# Altium integrated library TI Data Converters Analog to Digital Converter.IntLib: 2197 symbols (part 95 of 168)
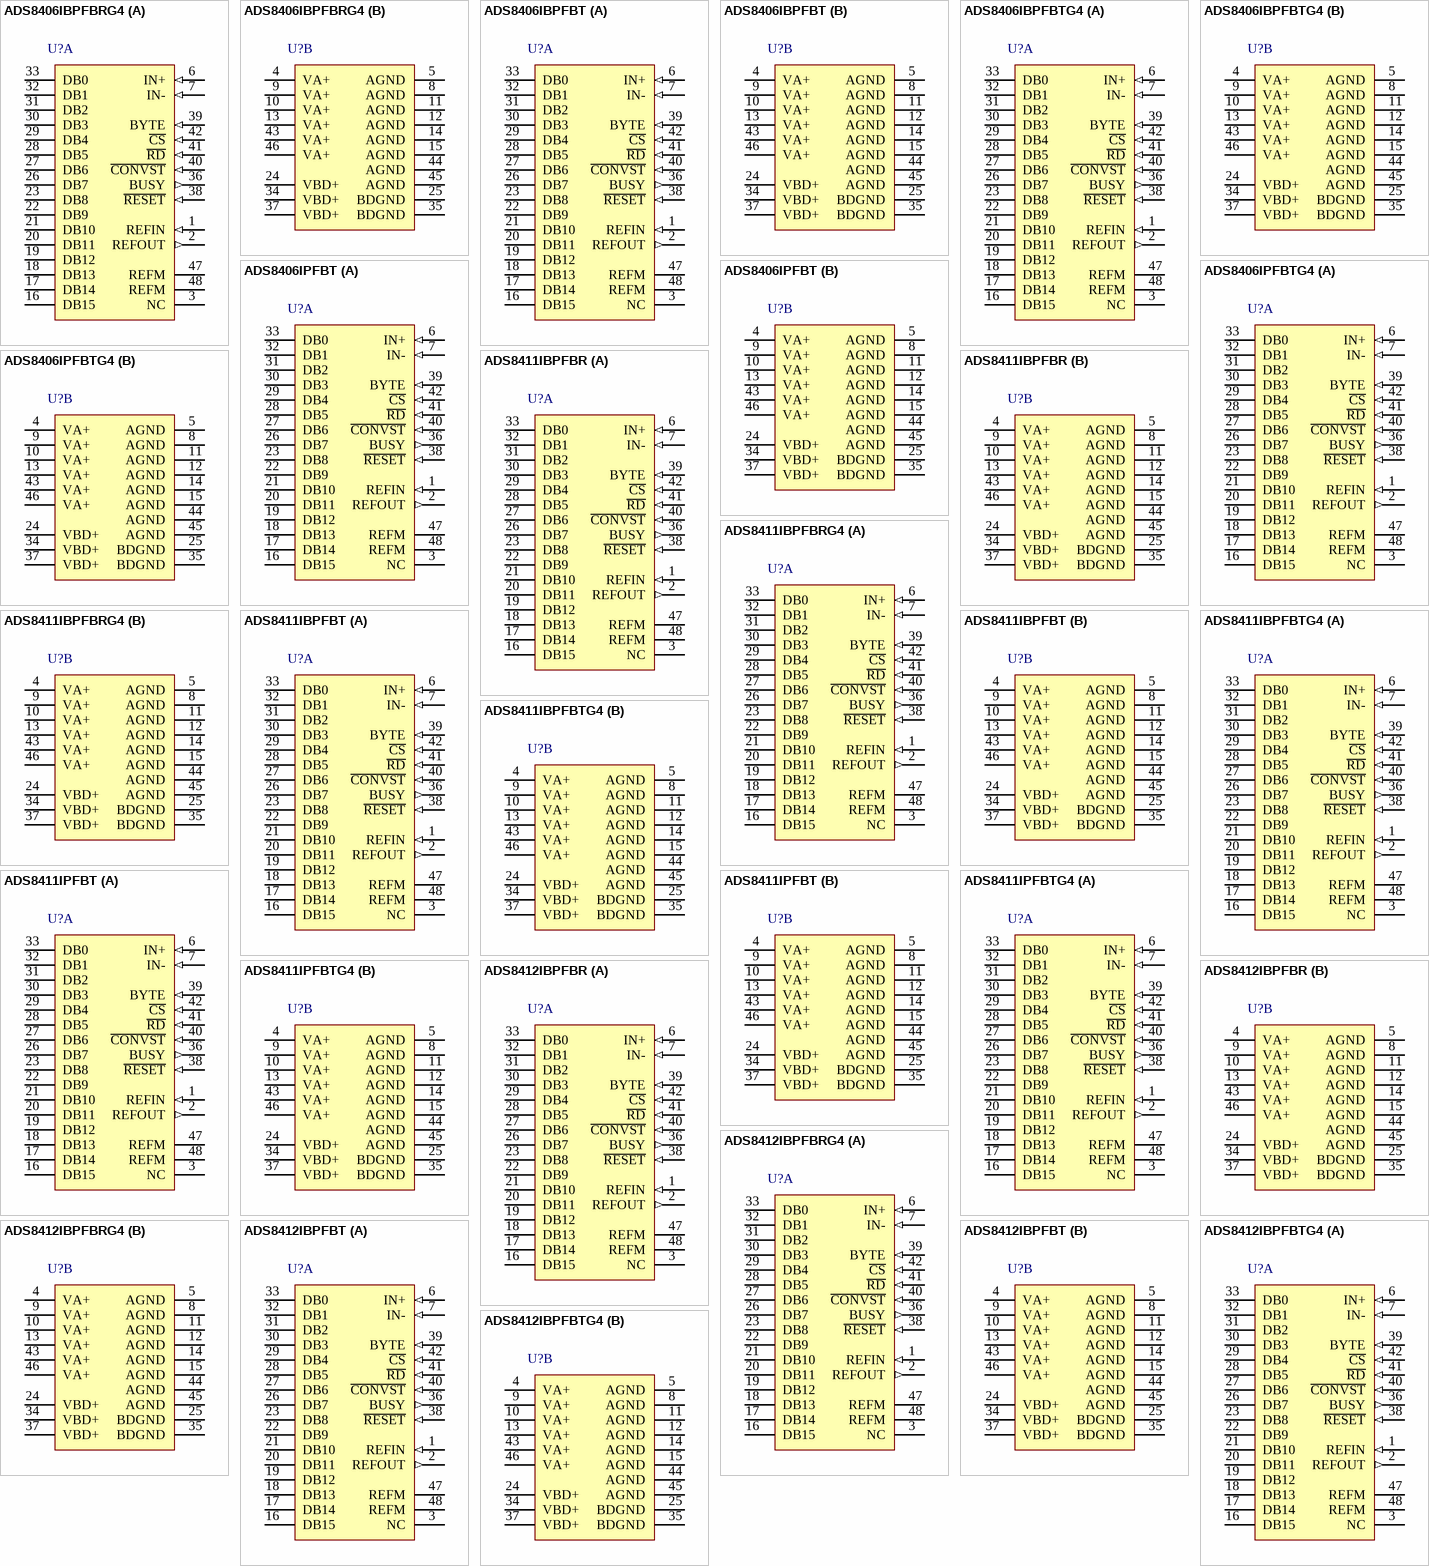
[diagram p220: symbols ADS8406IBPFBRG4 to ADS8412IBPFBTG4]

## ADS8411IBPFBT
designator U?
16-Bit, 2 MSPS ADC with Parallel Output, Internal Clock and Internal Reference, -40 to 85 degC, 48-pin QFP (PFB48), Green (RoHS & no Sb/Br); Manufacturer: Texas Instruments; PartNumber: ADS8411IBPFBT; # Input Channels: 1; Analog Voltage AV/DD(Max)(V): 5.25; Analog Voltage AV/DD(Min)(V): 4.75; Architecture: SAR; Digital Supply(Min)(V): 2.7; INL(Max)(+/-LSB): 2.5; Interface: Parallel CMOS; Resolution(Bits): 16; Sample Rate (max)(SPS): 2M; SFDR(dB): 90; SINAD(dB): 85; SNR(dB): 86; SubFamily: Precision ADC (<=10MSPS); DatasheetVersion: SLAS369B; PackageVersion: 4073176/B, 10/1996; PackageReference: PFB48; PackageDescription: 48-Pin Plastic Flat Pack, Body 7 x 7 mm, Pitch 0.5 mm; Supplier 1: Digi-Key; Supplier Part Number 1: ADS7816EB/2K5G4-ND; Supplier 2: Mouser; Supplier Part Number 2: 595-ADS7816EB/2K5G4; Digital Supply(Max)(V): 5.25; Eco-Plan: Green (RoHS & no Sb/Br); Mounting Technology: Surface Mount; Code_JEDEC: MS-026; ComponentLink1Description: Manufacturer URL; ComponentLink1URL: http://www.ti.com/; ComponentLink2Description: Datasheet; ComponentLink2URL: http://www.ti.com/general/docs/lit/getliterature.tsp?genericPartNumber=ADS8411&fileType=pdf; ComponentLink3Description: Package Specification; ComponentLink3URL: http://www.ti.com/lit/ml/mtqf019a/mtqf019a.pdf
footprint TI-PFB48_N (QFP, 48-Leads, Body 7x7mm, Pitch 0.5mm, IPC Medium Density)
footprint TI-PFB48_L (QFP, 48-Leads, Body 7x7mm, Pitch 0.5mm, IPC High Density)
footprint TI-PFB48_M (QFP, 48-Leads, Body 7x7mm, Pitch 0.5mm, IPC Low Density)
part A pins: 1 REFIN (in) "Reference input.", 2 REFOUT (out) "Reference output. Add 1 uF capacitor between the REFOUT pin and REFM pin when internal reference is used.", 3 NC "No connection", 6 IN+ (in) "Noninverting input channel", 7 IN- (in) "Inverting input channel", 16 DB15 (hiz), 17 DB14 (hiz), 18 DB13 (hiz), 19 DB12 (hiz), 20 DB11 (hiz), 21 DB10 (hiz), 22 DB9 (hiz), 23 DB8 (hiz), 26 DB7 (hiz), 27 DB6 (hiz), 28 DB5 (hiz), 29 DB4 (hiz), 30 DB3 (hiz), 31 DB2 (hiz), 32 DB1 (hiz), 33 DB0 (hiz), 36 BUSY (out) "Status output. High when a conversion is in progress.", 38 ~{RESET} (in) "Current conversion is aborted and output latches are cleared (set to zeros) when this pin is asserted low. R\E\S\E\T\ works independantly of C\S\.", 39 BYTE (in) "Byte select input. Used for 8-bit bus reading. 0: No fold back 1: Low byte D[7:0] of the 16 most significant bits is folded back to high byte of the 16 most significant pins DB[15:8].", 40 ~{CONVST} (in) "Convert start. The falling edge of this input ends the acquisition period and starts the hold period.", 41 ~{RD} (in) "Synchronization pulse for the parallel output. When C\S\ is low, this serves as the output enable and puts the previous conversion result on the bus.", 42 ~{CS} (in) "Chip select. The falling edge of this input starts the acquisition period.", 47 REFM (power) "Reference ground.", 48 REFM (power) "Reference ground."
part B pins: 4 VA+ (power) "Analog power supplies, 5-V dc", 5 AGND (power) "Analog ground", 8 AGND (power) "Analog ground", 9 VA+ (power) "Analog power supplies, 5-V dc", 10 VA+ (power) "Analog power supplies, 5-V dc", 11 AGND (power) "Analog ground", 12 AGND (power) "Analog ground", 13 VA+ (power) "Analog power supplies, 5-V dc", 14 AGND (power) "Analog ground", 15 AGND (power) "Analog ground", 24 VBD+ (power) "Digital power supply for bus", 25 BDGND (power) "Digital ground for bus interface digital supply", 34 VBD+ (power) "Digital power supply for bus", 35 BDGND (power) "Digital ground for bus interface digital supply", 37 VBD+ (power) "Digital power supply for bus", 43 VA+ (power) "Analog power supplies, 5-V dc", 44 AGND (power) "Analog ground", 45 AGND (power) "Analog ground", 46 VA+ (power) "Analog power supplies, 5-V dc"

## ADS8411IBPFBTG4
designator U?
16-Bit, 2 MSPS ADC with Parallel Output, Internal Clock and Internal Reference, -40 to 85 degC, 48-pin QFP (PFB48), Green (RoHS & no Sb/Br); Manufacturer: Texas Instruments; PartNumber: ADS8411IBPFBTG4; # Input Channels: 1; Analog Voltage AV/DD(Max)(V): 5.25; Analog Voltage AV/DD(Min)(V): 4.75; Architecture: SAR; Digital Supply(Min)(V): 2.7; INL(Max)(+/-LSB): 2.5; Interface: Parallel CMOS; Resolution(Bits): 16; Sample Rate (max)(SPS): 2M; SFDR(dB): 90; SINAD(dB): 85; SNR(dB): 86; SubFamily: Precision ADC (<=10MSPS); DatasheetVersion: SLAS369B; PackageVersion: 4073176/B, 10/1996; PackageReference: PFB48; PackageDescription: 48-Pin Plastic Flat Pack, Body 7 x 7 mm, Pitch 0.5 mm; Supplier 1: Digi-Key; Supplier Part Number 1: ADS7816ECTR-ND; Supplier 2: Digi-Key; Supplier Part Number 2: ADS7816ECCT-ND; Supplier 3: Digi-Key; Supplier Part Number 3: ADS7816ECDKR-ND; Supplier 4: Farnell; Supplier Part Number 4: 1754724; Supplier 5: Newark; Supplier Part Number 5: 93R5060; Supplier 6: Mouser; Supplier Part Number 6: 595-ADS7816EC/250; Digital Supply(Max)(V): 5.25; Eco-Plan: Green (RoHS & no Sb/Br); Mounting Technology: Surface Mount; Code_JEDEC: MS-026; ComponentLink1Description: Manufacturer URL; ComponentLink1URL: http://www.ti.com/; ComponentLink2Description: Datasheet; ComponentLink2URL: http://www.ti.com/general/docs/lit/getliterature.tsp?genericPartNumber=ADS8411&fileType=pdf; ComponentLink3Description: Package Specification; ComponentLink3URL: http://www.ti.com/lit/ml/mtqf019a/mtqf019a.pdf
footprint TI-PFB48_N (QFP, 48-Leads, Body 7x7mm, Pitch 0.5mm, IPC Medium Density)
footprint TI-PFB48_L (QFP, 48-Leads, Body 7x7mm, Pitch 0.5mm, IPC High Density)
footprint TI-PFB48_M (QFP, 48-Leads, Body 7x7mm, Pitch 0.5mm, IPC Low Density)
part A pins: 1 REFIN (in) "Reference input.", 2 REFOUT (out) "Reference output. Add 1 uF capacitor between the REFOUT pin and REFM pin when internal reference is used.", 3 NC "No connection", 6 IN+ (in) "Noninverting input channel", 7 IN- (in) "Inverting input channel", 16 DB15 (hiz), 17 DB14 (hiz), 18 DB13 (hiz), 19 DB12 (hiz), 20 DB11 (hiz), 21 DB10 (hiz), 22 DB9 (hiz), 23 DB8 (hiz), 26 DB7 (hiz), 27 DB6 (hiz), 28 DB5 (hiz), 29 DB4 (hiz), 30 DB3 (hiz), 31 DB2 (hiz), 32 DB1 (hiz), 33 DB0 (hiz), 36 BUSY (out) "Status output. High when a conversion is in progress.", 38 ~{RESET} (in) "Current conversion is aborted and output latches are cleared (set to zeros) when this pin is asserted low. R\E\S\E\T\ works independantly of C\S\.", 39 BYTE (in) "Byte select input. Used for 8-bit bus reading. 0: No fold back 1: Low byte D[7:0] of the 16 most significant bits is folded back to high byte of the 16 most significant pins DB[15:8].", 40 ~{CONVST} (in) "Convert start. The falling edge of this input ends the acquisition period and starts the hold period.", 41 ~{RD} (in) "Synchronization pulse for the parallel output. When C\S\ is low, this serves as the output enable and puts the previous conversion result on the bus.", 42 ~{CS} (in) "Chip select. The falling edge of this input starts the acquisition period.", 47 REFM (power) "Reference ground.", 48 REFM (power) "Reference ground."
part B pins: 4 VA+ (power) "Analog power supplies, 5-V dc", 5 AGND (power) "Analog ground", 8 AGND (power) "Analog ground", 9 VA+ (power) "Analog power supplies, 5-V dc", 10 VA+ (power) "Analog power supplies, 5-V dc", 11 AGND (power) "Analog ground", 12 AGND (power) "Analog ground", 13 VA+ (power) "Analog power supplies, 5-V dc", 14 AGND (power) "Analog ground", 15 AGND (power) "Analog ground", 24 VBD+ (power) "Digital power supply for bus", 25 BDGND (power) "Digital ground for bus interface digital supply", 34 VBD+ (power) "Digital power supply for bus", 35 BDGND (power) "Digital ground for bus interface digital supply", 37 VBD+ (power) "Digital power supply for bus", 43 VA+ (power) "Analog power supplies, 5-V dc", 44 AGND (power) "Analog ground", 45 AGND (power) "Analog ground", 46 VA+ (power) "Analog power supplies, 5-V dc"

## ADS8411IPFBT
designator U?
16-Bit, 2 MSPS ADC with Parallel Output, Internal Clock and Internal Reference, -40 to 85 degC, 48-pin QFP (PFB48), Green (RoHS & no Sb/Br); Manufacturer: Texas Instruments; PartNumber: ADS8411IPFBT; # Input Channels: 1; Analog Voltage AV/DD(Max)(V): 5.25; Analog Voltage AV/DD(Min)(V): 4.75; Architecture: SAR; Digital Supply(Min)(V): 2.7; INL(Max)(+/-LSB): 6; Interface: Parallel CMOS; Resolution(Bits): 16; Sample Rate (max)(SPS): 2M; SFDR(dB): 90; SINAD(dB): 85; SNR(dB): 86; SubFamily: Precision ADC (<=10MSPS); DatasheetVersion: SLAS369B; PackageVersion: 4073176/B, 10/1996; PackageReference: PFB48; PackageDescription: 48-Pin Plastic Flat Pack, Body 7 x 7 mm, Pitch 0.5 mm; Supplier 1: Digi-Key; Supplier Part Number 1: ADS7816EC/250G4-ND; Supplier 2: Mouser; Supplier Part Number 2: 595-ADS7816EC/250G4; Digital Supply(Max)(V): 5.25; Eco-Plan: Green (RoHS & no Sb/Br); Mounting Technology: Surface Mount; Code_JEDEC: MS-026; ComponentLink1Description: Manufacturer URL; ComponentLink1URL: http://www.ti.com/; ComponentLink2Description: Datasheet; ComponentLink2URL: http://www.ti.com/general/docs/lit/getliterature.tsp?genericPartNumber=ADS8411&fileType=pdf; ComponentLink3Description: Package Specification; ComponentLink3URL: http://www.ti.com/lit/ml/mtqf019a/mtqf019a.pdf
footprint TI-PFB48_N (QFP, 48-Leads, Body 7x7mm, Pitch 0.5mm, IPC Medium Density)
footprint TI-PFB48_L (QFP, 48-Leads, Body 7x7mm, Pitch 0.5mm, IPC High Density)
footprint TI-PFB48_M (QFP, 48-Leads, Body 7x7mm, Pitch 0.5mm, IPC Low Density)
part A pins: 1 REFIN (in) "Reference input.", 2 REFOUT (out) "Reference output. Add 1 uF capacitor between the REFOUT pin and REFM pin when internal reference is used.", 3 NC "No connection", 6 IN+ (in) "Noninverting input channel", 7 IN- (in) "Inverting input channel", 16 DB15 (hiz), 17 DB14 (hiz), 18 DB13 (hiz), 19 DB12 (hiz), 20 DB11 (hiz), 21 DB10 (hiz), 22 DB9 (hiz), 23 DB8 (hiz), 26 DB7 (hiz), 27 DB6 (hiz), 28 DB5 (hiz), 29 DB4 (hiz), 30 DB3 (hiz), 31 DB2 (hiz), 32 DB1 (hiz), 33 DB0 (hiz), 36 BUSY (out) "Status output. High when a conversion is in progress.", 38 ~{RESET} (in) "Current conversion is aborted and output latches are cleared (set to zeros) when this pin is asserted low. R\E\S\E\T\ works independantly of C\S\.", 39 BYTE (in) "Byte select input. Used for 8-bit bus reading. 0: No fold back 1: Low byte D[7:0] of the 16 most significant bits is folded back to high byte of the 16 most significant pins DB[15:8].", 40 ~{CONVST} (in) "Convert start. The falling edge of this input ends the acquisition period and starts the hold period.", 41 ~{RD} (in) "Synchronization pulse for the parallel output. When C\S\ is low, this serves as the output enable and puts the previous conversion result on the bus.", 42 ~{CS} (in) "Chip select. The falling edge of this input starts the acquisition period.", 47 REFM (power) "Reference ground.", 48 REFM (power) "Reference ground."
part B pins: 4 VA+ (power) "Analog power supplies, 5-V dc", 5 AGND (power) "Analog ground", 8 AGND (power) "Analog ground", 9 VA+ (power) "Analog power supplies, 5-V dc", 10 VA+ (power) "Analog power supplies, 5-V dc", 11 AGND (power) "Analog ground", 12 AGND (power) "Analog ground", 13 VA+ (power) "Analog power supplies, 5-V dc", 14 AGND (power) "Analog ground", 15 AGND (power) "Analog ground", 24 VBD+ (power) "Digital power supply for bus", 25 BDGND (power) "Digital ground for bus interface digital supply", 34 VBD+ (power) "Digital power supply for bus", 35 BDGND (power) "Digital ground for bus interface digital supply", 37 VBD+ (power) "Digital power supply for bus", 43 VA+ (power) "Analog power supplies, 5-V dc", 44 AGND (power) "Analog ground", 45 AGND (power) "Analog ground", 46 VA+ (power) "Analog power supplies, 5-V dc"

## ADS8411IPFBTG4
designator U?
16-Bit, 2 MSPS ADC with Parallel Output, Internal Clock and Internal Reference, -40 to 85 degC, 48-pin QFP (PFB48), Green (RoHS & no Sb/Br); Manufacturer: Texas Instruments; PartNumber: ADS8411IPFBTG4; # Input Channels: 1; Analog Voltage AV/DD(Max)(V): 5.25; Analog Voltage AV/DD(Min)(V): 4.75; Architecture: SAR; Digital Supply(Min)(V): 2.7; INL(Max)(+/-LSB): 6; Interface: Parallel CMOS; Resolution(Bits): 16; Sample Rate (max)(SPS): 2M; SFDR(dB): 90; SINAD(dB): 85; SNR(dB): 86; SubFamily: Precision ADC (<=10MSPS); DatasheetVersion: SLAS369B; PackageVersion: 4073176/B, 10/1996; PackageReference: PFB48; PackageDescription: 48-Pin Plastic Flat Pack, Body 7 x 7 mm, Pitch 0.5 mm; Supplier 1: Digi-Key; Supplier Part Number 1: ADS7816EC/2K5-ND; Supplier 2: Mouser; Supplier Part Number 2: 595-ADS7816EC/2K5; Digital Supply(Max)(V): 5.25; Eco-Plan: Green (RoHS & no Sb/Br); Mounting Technology: Surface Mount; Code_JEDEC: MS-026; ComponentLink1Description: Manufacturer URL; ComponentLink1URL: http://www.ti.com/; ComponentLink2Description: Datasheet; ComponentLink2URL: http://www.ti.com/general/docs/lit/getliterature.tsp?genericPartNumber=ADS8411&fileType=pdf; ComponentLink3Description: Package Specification; ComponentLink3URL: http://www.ti.com/lit/ml/mtqf019a/mtqf019a.pdf
footprint TI-PFB48_N (QFP, 48-Leads, Body 7x7mm, Pitch 0.5mm, IPC Medium Density)
footprint TI-PFB48_L (QFP, 48-Leads, Body 7x7mm, Pitch 0.5mm, IPC High Density)
footprint TI-PFB48_M (QFP, 48-Leads, Body 7x7mm, Pitch 0.5mm, IPC Low Density)
part A pins: 1 REFIN (in) "Reference input.", 2 REFOUT (out) "Reference output. Add 1 uF capacitor between the REFOUT pin and REFM pin when internal reference is used.", 3 NC "No connection", 6 IN+ (in) "Noninverting input channel", 7 IN- (in) "Inverting input channel", 16 DB15 (hiz), 17 DB14 (hiz), 18 DB13 (hiz), 19 DB12 (hiz), 20 DB11 (hiz), 21 DB10 (hiz), 22 DB9 (hiz), 23 DB8 (hiz), 26 DB7 (hiz), 27 DB6 (hiz), 28 DB5 (hiz), 29 DB4 (hiz), 30 DB3 (hiz), 31 DB2 (hiz), 32 DB1 (hiz), 33 DB0 (hiz), 36 BUSY (out) "Status output. High when a conversion is in progress.", 38 ~{RESET} (in) "Current conversion is aborted and output latches are cleared (set to zeros) when this pin is asserted low. R\E\S\E\T\ works independantly of C\S\.", 39 BYTE (in) "Byte select input. Used for 8-bit bus reading. 0: No fold back 1: Low byte D[7:0] of the 16 most significant bits is folded back to high byte of the 16 most significant pins DB[15:8].", 40 ~{CONVST} (in) "Convert start. The falling edge of this input ends the acquisition period and starts the hold period.", 41 ~{RD} (in) "Synchronization pulse for the parallel output. When C\S\ is low, this serves as the output enable and puts the previous conversion result on the bus.", 42 ~{CS} (in) "Chip select. The falling edge of this input starts the acquisition period.", 47 REFM (power) "Reference ground.", 48 REFM (power) "Reference ground."
part B pins: 4 VA+ (power) "Analog power supplies, 5-V dc", 5 AGND (power) "Analog ground", 8 AGND (power) "Analog ground", 9 VA+ (power) "Analog power supplies, 5-V dc", 10 VA+ (power) "Analog power supplies, 5-V dc", 11 AGND (power) "Analog ground", 12 AGND (power) "Analog ground", 13 VA+ (power) "Analog power supplies, 5-V dc", 14 AGND (power) "Analog ground", 15 AGND (power) "Analog ground", 24 VBD+ (power) "Digital power supply for bus", 25 BDGND (power) "Digital ground for bus interface digital supply", 34 VBD+ (power) "Digital power supply for bus", 35 BDGND (power) "Digital ground for bus interface digital supply", 37 VBD+ (power) "Digital power supply for bus", 43 VA+ (power) "Analog power supplies, 5-V dc", 44 AGND (power) "Analog ground", 45 AGND (power) "Analog ground", 46 VA+ (power) "Analog power supplies, 5-V dc"

## ADS8412IBPFBR
designator U?
16-Bit 2 MSPS Parallel ADC with Reference, Pseudo Bipolar Fully Differential Input, -40 to 85 degC, 48-pin QFP (PFB48), Green (RoHS & no Sb/Br); Manufacturer: Texas Instruments; PartNumber: ADS8412IBPFBR; # Input Channels: 1; Analog Voltage AV/DD(Max)(V): 5.25; Analog Voltage AV/DD(Min)(V): 4.75; Architecture: SAR; Digital Supply(Min)(V): 2.7; INL(Max)(+/-LSB): 2.5; Interface: Parallel CMOS; Resolution(Bits): 16; Sample Rate (max)(SPS): 2M; SFDR(dB): 95; SINAD(dB): 88; SNR(dB): 90; SubFamily: Precision ADC (<=10MSPS); DatasheetVersion: SLAS384A; PackageVersion: 4073176/B, 10/1996; PackageReference: PFB48; PackageDescription: 48-Pin Plastic Flat Pack, Body 7 x 7 mm, Pitch 0.5 mm; Supplier 1: Digi-Key; Supplier Part Number 1: ADS7816EC/2K5G4-ND; Supplier 2: Mouser; Supplier Part Number 2: 595-ADS7816EC/2K5G4; Digital Supply(Max)(V): 5.25; Eco-Plan: Green (RoHS & no Sb/Br); Mounting Technology: Surface Mount; Code_JEDEC: MS-026; ComponentLink1Description: Manufacturer URL; ComponentLink1URL: http://www.ti.com/; ComponentLink2Description: Datasheet; ComponentLink2URL: http://www.ti.com/general/docs/lit/getliterature.tsp?genericPartNumber=ADS8412&fileType=pdf; ComponentLink3Description: Package Specification; ComponentLink3URL: http://www.ti.com/lit/ml/mtqf019a/mtqf019a.pdf
footprint TI-PFB48_N (QFP, 48-Leads, Body 7x7mm, Pitch 0.5mm, IPC Medium Density)
footprint TI-PFB48_L (QFP, 48-Leads, Body 7x7mm, Pitch 0.5mm, IPC High Density)
footprint TI-PFB48_M (QFP, 48-Leads, Body 7x7mm, Pitch 0.5mm, IPC Low Density)
part A pins: 1 REFIN (in) "Reference input.", 2 REFOUT (out) "Reference output. Add 1 uF capacitor between the REFOUT pin and REFM pin when internal reference is used.", 3 NC "No connection", 6 IN+ (in) "Noninverting input channel", 7 IN- (in) "Inverting input channel", 16 DB15 (hiz), 17 DB14 (hiz), 18 DB13 (hiz), 19 DB12 (hiz), 20 DB11 (hiz), 21 DB10 (hiz), 22 DB9 (hiz), 23 DB8 (hiz), 26 DB7 (hiz), 27 DB6 (hiz), 28 DB5 (hiz), 29 DB4 (hiz), 30 DB3 (hiz), 31 DB2 (hiz), 32 DB1 (hiz), 33 DB0 (hiz), 36 BUSY (out) "Status output. High when a conversion is in progress.", 38 ~{RESET} (in) "Current conversion is aborted and output latches are cleared (set to zeros) when this pin is asserted low. R\E\S\E\T\ works independantly of C\S\.", 39 BYTE (in) "Byte select input. Used for 8-bit bus reading. 0: No fold back 1: Low byte D[7:0] of the 16 most significant bits is folded back to high byte of the 16 most significant pins DB[15:8].", 40 ~{CONVST} (in) "Convert start. The falling edge of this input ends the acquisition period and starts the hold period.", 41 ~{RD} (in) "Synchronization pulse for the parallel output. When C\S\ is low, this serves as the output enable and puts the previous conversion result on the bus.", 42 ~{CS} (in) "Chip select. The falling edge of this input starts the acquisition period.", 47 REFM (power) "Reference ground.", 48 REFM (power) "Reference ground."
part B pins: 4 VA+ (power) "Analog power supplies, 5-V dc", 5 AGND (power) "Analog ground", 8 AGND (power) "Analog ground", 9 VA+ (power) "Analog power supplies, 5-V dc", 10 VA+ (power) "Analog power supplies, 5-V dc", 11 AGND (power) "Analog ground", 12 AGND (power) "Analog ground", 13 VA+ (power) "Analog power supplies, 5-V dc", 14 AGND (power) "Analog ground", 15 AGND (power) "Analog ground", 24 VBD+ (power) "Digital power supply for bus", 25 BDGND (power) "Digital ground for bus interface digital supply", 34 VBD+ (power) "Digital power supply for bus", 35 BDGND (power) "Digital ground for bus interface digital supply", 37 VBD+ (power) "Digital power supply for bus", 43 VA+ (power) "Analog power supplies, 5-V dc", 44 AGND (power) "Analog ground", 45 AGND (power) "Analog ground", 46 VA+ (power) "Analog power supplies, 5-V dc"

## ADS8412IBPFBRG4
designator U?
16-Bit 2 MSPS Parallel ADC with Reference, Pseudo Bipolar Fully Differential Input, -40 to 85 degC, 48-pin QFP (PFB48), Green (RoHS & no Sb/Br); Manufacturer: Texas Instruments; PartNumber: ADS8412IBPFBRG4; # Input Channels: 1; Analog Voltage AV/DD(Max)(V): 5.25; Analog Voltage AV/DD(Min)(V): 4.75; Architecture: SAR; Digital Supply(Min)(V): 2.7; INL(Max)(+/-LSB): 2.5; Interface: Parallel CMOS; Resolution(Bits): 16; Sample Rate (max)(SPS): 2M; SFDR(dB): 95; SINAD(dB): 88; SNR(dB): 90; SubFamily: Precision ADC (<=10MSPS); DatasheetVersion: SLAS384A; PackageVersion: 4073176/B, 10/1996; PackageReference: PFB48; PackageDescription: 48-Pin Plastic Flat Pack, Body 7 x 7 mm, Pitch 0.5 mm; Supplier 1: Digi-Key; Supplier Part Number 1: ADS7816P-ND; Supplier 2: Farnell; Supplier Part Number 2: 1097576; Supplier 3: Mouser; Supplier Part Number 3: 595-ADS7816P; Digital Supply(Max)(V): 5.25; Eco-Plan: Green (RoHS & no Sb/Br); Mounting Technology: Surface Mount; Code_JEDEC: MS-026; ComponentLink1Description: Manufacturer URL; ComponentLink1URL: http://www.ti.com/; ComponentLink2Description: Datasheet; ComponentLink2URL: http://www.ti.com/general/docs/lit/getliterature.tsp?genericPartNumber=ADS8412&fileType=pdf; ComponentLink3Description: Package Specification; ComponentLink3URL: http://www.ti.com/lit/ml/mtqf019a/mtqf019a.pdf
footprint TI-PFB48_N (QFP, 48-Leads, Body 7x7mm, Pitch 0.5mm, IPC Medium Density)
footprint TI-PFB48_L (QFP, 48-Leads, Body 7x7mm, Pitch 0.5mm, IPC High Density)
footprint TI-PFB48_M (QFP, 48-Leads, Body 7x7mm, Pitch 0.5mm, IPC Low Density)
part A pins: 1 REFIN (in) "Reference input.", 2 REFOUT (out) "Reference output. Add 1 uF capacitor between the REFOUT pin and REFM pin when internal reference is used.", 3 NC "No connection", 6 IN+ (in) "Noninverting input channel", 7 IN- (in) "Inverting input channel", 16 DB15 (hiz), 17 DB14 (hiz), 18 DB13 (hiz), 19 DB12 (hiz), 20 DB11 (hiz), 21 DB10 (hiz), 22 DB9 (hiz), 23 DB8 (hiz), 26 DB7 (hiz), 27 DB6 (hiz), 28 DB5 (hiz), 29 DB4 (hiz), 30 DB3 (hiz), 31 DB2 (hiz), 32 DB1 (hiz), 33 DB0 (hiz), 36 BUSY (out) "Status output. High when a conversion is in progress.", 38 ~{RESET} (in) "Current conversion is aborted and output latches are cleared (set to zeros) when this pin is asserted low. R\E\S\E\T\ works independantly of C\S\.", 39 BYTE (in) "Byte select input. Used for 8-bit bus reading. 0: No fold back 1: Low byte D[7:0] of the 16 most significant bits is folded back to high byte of the 16 most significant pins DB[15:8].", 40 ~{CONVST} (in) "Convert start. The falling edge of this input ends the acquisition period and starts the hold period.", 41 ~{RD} (in) "Synchronization pulse for the parallel output. When C\S\ is low, this serves as the output enable and puts the previous conversion result on the bus.", 42 ~{CS} (in) "Chip select. The falling edge of this input starts the acquisition period.", 47 REFM (power) "Reference ground.", 48 REFM (power) "Reference ground."
part B pins: 4 VA+ (power) "Analog power supplies, 5-V dc", 5 AGND (power) "Analog ground", 8 AGND (power) "Analog ground", 9 VA+ (power) "Analog power supplies, 5-V dc", 10 VA+ (power) "Analog power supplies, 5-V dc", 11 AGND (power) "Analog ground", 12 AGND (power) "Analog ground", 13 VA+ (power) "Analog power supplies, 5-V dc", 14 AGND (power) "Analog ground", 15 AGND (power) "Analog ground", 24 VBD+ (power) "Digital power supply for bus", 25 BDGND (power) "Digital ground for bus interface digital supply", 34 VBD+ (power) "Digital power supply for bus", 35 BDGND (power) "Digital ground for bus interface digital supply", 37 VBD+ (power) "Digital power supply for bus", 43 VA+ (power) "Analog power supplies, 5-V dc", 44 AGND (power) "Analog ground", 45 AGND (power) "Analog ground", 46 VA+ (power) "Analog power supplies, 5-V dc"

## ADS8412IBPFBT
designator U?
16-Bit 2 MSPS Parallel ADC with Reference, Pseudo Bipolar Fully Differential Input, -40 to 85 degC, 48-pin QFP (PFB48), Green (RoHS & no Sb/Br); Manufacturer: Texas Instruments; PartNumber: ADS8412IBPFBT; # Input Channels: 1; Analog Voltage AV/DD(Max)(V): 5.25; Analog Voltage AV/DD(Min)(V): 4.75; Architecture: SAR; Digital Supply(Min)(V): 2.7; INL(Max)(+/-LSB): 2.5; Interface: Parallel CMOS; Resolution(Bits): 16; Sample Rate (max)(SPS): 2M; SFDR(dB): 95; SINAD(dB): 88; SNR(dB): 90; SubFamily: Precision ADC (<=10MSPS); DatasheetVersion: SLAS384A; PackageVersion: 4073176/B, 10/1996; PackageReference: PFB48; PackageDescription: 48-Pin Plastic Flat Pack, Body 7 x 7 mm, Pitch 0.5 mm; Supplier 1: Digi-Key; Supplier Part Number 1: ADS7816PB-ND; Supplier 2: Newark; Supplier Part Number 2: 74C7110; Supplier 3: Mouser; Supplier Part Number 3: 595-ADS7816PB; Digital Supply(Max)(V): 5.25; Eco-Plan: Green (RoHS & no Sb/Br); Mounting Technology: Surface Mount; Code_JEDEC: MS-026; ComponentLink1Description: Manufacturer URL; ComponentLink1URL: http://www.ti.com/; ComponentLink2Description: Datasheet; ComponentLink2URL: http://www.ti.com/general/docs/lit/getliterature.tsp?genericPartNumber=ADS8412&fileType=pdf; ComponentLink3Description: Package Specification; ComponentLink3URL: http://www.ti.com/lit/ml/mtqf019a/mtqf019a.pdf
footprint TI-PFB48_N (QFP, 48-Leads, Body 7x7mm, Pitch 0.5mm, IPC Medium Density)
footprint TI-PFB48_L (QFP, 48-Leads, Body 7x7mm, Pitch 0.5mm, IPC High Density)
footprint TI-PFB48_M (QFP, 48-Leads, Body 7x7mm, Pitch 0.5mm, IPC Low Density)
part A pins: 1 REFIN (in) "Reference input.", 2 REFOUT (out) "Reference output. Add 1 uF capacitor between the REFOUT pin and REFM pin when internal reference is used.", 3 NC "No connection", 6 IN+ (in) "Noninverting input channel", 7 IN- (in) "Inverting input channel", 16 DB15 (hiz), 17 DB14 (hiz), 18 DB13 (hiz), 19 DB12 (hiz), 20 DB11 (hiz), 21 DB10 (hiz), 22 DB9 (hiz), 23 DB8 (hiz), 26 DB7 (hiz), 27 DB6 (hiz), 28 DB5 (hiz), 29 DB4 (hiz), 30 DB3 (hiz), 31 DB2 (hiz), 32 DB1 (hiz), 33 DB0 (hiz), 36 BUSY (out) "Status output. High when a conversion is in progress.", 38 ~{RESET} (in) "Current conversion is aborted and output latches are cleared (set to zeros) when this pin is asserted low. R\E\S\E\T\ works independantly of C\S\.", 39 BYTE (in) "Byte select input. Used for 8-bit bus reading. 0: No fold back 1: Low byte D[7:0] of the 16 most significant bits is folded back to high byte of the 16 most significant pins DB[15:8].", 40 ~{CONVST} (in) "Convert start. The falling edge of this input ends the acquisition period and starts the hold period.", 41 ~{RD} (in) "Synchronization pulse for the parallel output. When C\S\ is low, this serves as the output enable and puts the previous conversion result on the bus.", 42 ~{CS} (in) "Chip select. The falling edge of this input starts the acquisition period.", 47 REFM (power) "Reference ground.", 48 REFM (power) "Reference ground."
part B pins: 4 VA+ (power) "Analog power supplies, 5-V dc", 5 AGND (power) "Analog ground", 8 AGND (power) "Analog ground", 9 VA+ (power) "Analog power supplies, 5-V dc", 10 VA+ (power) "Analog power supplies, 5-V dc", 11 AGND (power) "Analog ground", 12 AGND (power) "Analog ground", 13 VA+ (power) "Analog power supplies, 5-V dc", 14 AGND (power) "Analog ground", 15 AGND (power) "Analog ground", 24 VBD+ (power) "Digital power supply for bus", 25 BDGND (power) "Digital ground for bus interface digital supply", 34 VBD+ (power) "Digital power supply for bus", 35 BDGND (power) "Digital ground for bus interface digital supply", 37 VBD+ (power) "Digital power supply for bus", 43 VA+ (power) "Analog power supplies, 5-V dc", 44 AGND (power) "Analog ground", 45 AGND (power) "Analog ground", 46 VA+ (power) "Analog power supplies, 5-V dc"

## ADS8412IBPFBTG4
designator U?
16-Bit 2 MSPS Parallel ADC with Reference, Pseudo Bipolar Fully Differential Input, -40 to 85 degC, 48-pin QFP (PFB48), Green (RoHS & no Sb/Br); Manufacturer: Texas Instruments; PartNumber: ADS8412IBPFBTG4; # Input Channels: 1; Analog Voltage AV/DD(Max)(V): 5.25; Analog Voltage AV/DD(Min)(V): 4.75; Architecture: SAR; Digital Supply(Min)(V): 2.7; INL(Max)(+/-LSB): 2.5; Interface: Parallel CMOS; Resolution(Bits): 16; Sample Rate (max)(SPS): 2M; SFDR(dB): 95; SINAD(dB): 88; SNR(dB): 90; SubFamily: Precision ADC (<=10MSPS); DatasheetVersion: SLAS384A; PackageVersion: 4073176/B, 10/1996; PackageReference: PFB48; PackageDescription: 48-Pin Plastic Flat Pack, Body 7 x 7 mm, Pitch 0.5 mm; Supplier 1: Digi-Key; Supplier Part Number 1: ADS7816PBG4-ND; Supplier 2: Mouser; Supplier Part Number 2: 595-ADS7816PBG4; Digital Supply(Max)(V): 5.25; Eco-Plan: Green (RoHS & no Sb/Br); Mounting Technology: Surface Mount; Code_JEDEC: MS-026; ComponentLink1Description: Manufacturer URL; ComponentLink1URL: http://www.ti.com/; ComponentLink2Description: Datasheet; ComponentLink2URL: http://www.ti.com/general/docs/lit/getliterature.tsp?genericPartNumber=ADS8412&fileType=pdf; ComponentLink3Description: Package Specification; ComponentLink3URL: http://www.ti.com/lit/ml/mtqf019a/mtqf019a.pdf
footprint TI-PFB48_N (QFP, 48-Leads, Body 7x7mm, Pitch 0.5mm, IPC Medium Density)
footprint TI-PFB48_L (QFP, 48-Leads, Body 7x7mm, Pitch 0.5mm, IPC High Density)
footprint TI-PFB48_M (QFP, 48-Leads, Body 7x7mm, Pitch 0.5mm, IPC Low Density)
part A pins: 1 REFIN (in) "Reference input.", 2 REFOUT (out) "Reference output. Add 1 uF capacitor between the REFOUT pin and REFM pin when internal reference is used.", 3 NC "No connection", 6 IN+ (in) "Noninverting input channel", 7 IN- (in) "Inverting input channel", 16 DB15 (hiz), 17 DB14 (hiz), 18 DB13 (hiz), 19 DB12 (hiz), 20 DB11 (hiz), 21 DB10 (hiz), 22 DB9 (hiz), 23 DB8 (hiz), 26 DB7 (hiz), 27 DB6 (hiz), 28 DB5 (hiz), 29 DB4 (hiz), 30 DB3 (hiz), 31 DB2 (hiz), 32 DB1 (hiz), 33 DB0 (hiz), 36 BUSY (out) "Status output. High when a conversion is in progress.", 38 ~{RESET} (in) "Current conversion is aborted and output latches are cleared (set to zeros) when this pin is asserted low. R\E\S\E\T\ works independantly of C\S\.", 39 BYTE (in) "Byte select input. Used for 8-bit bus reading. 0: No fold back 1: Low byte D[7:0] of the 16 most significant bits is folded back to high byte of the 16 most significant pins DB[15:8].", 40 ~{CONVST} (in) "Convert start. The falling edge of this input ends the acquisition period and starts the hold period.", 41 ~{RD} (in) "Synchronization pulse for the parallel output. When C\S\ is low, this serves as the output enable and puts the previous conversion result on the bus.", 42 ~{CS} (in) "Chip select. The falling edge of this input starts the acquisition period.", 47 REFM (power) "Reference ground.", 48 REFM (power) "Reference ground."
part B pins: 4 VA+ (power) "Analog power supplies, 5-V dc", 5 AGND (power) "Analog ground", 8 AGND (power) "Analog ground", 9 VA+ (power) "Analog power supplies, 5-V dc", 10 VA+ (power) "Analog power supplies, 5-V dc", 11 AGND (power) "Analog ground", 12 AGND (power) "Analog ground", 13 VA+ (power) "Analog power supplies, 5-V dc", 14 AGND (power) "Analog ground", 15 AGND (power) "Analog ground", 24 VBD+ (power) "Digital power supply for bus", 25 BDGND (power) "Digital ground for bus interface digital supply", 34 VBD+ (power) "Digital power supply for bus", 35 BDGND (power) "Digital ground for bus interface digital supply", 37 VBD+ (power) "Digital power supply for bus", 43 VA+ (power) "Analog power supplies, 5-V dc", 44 AGND (power) "Analog ground", 45 AGND (power) "Analog ground", 46 VA+ (power) "Analog power supplies, 5-V dc"

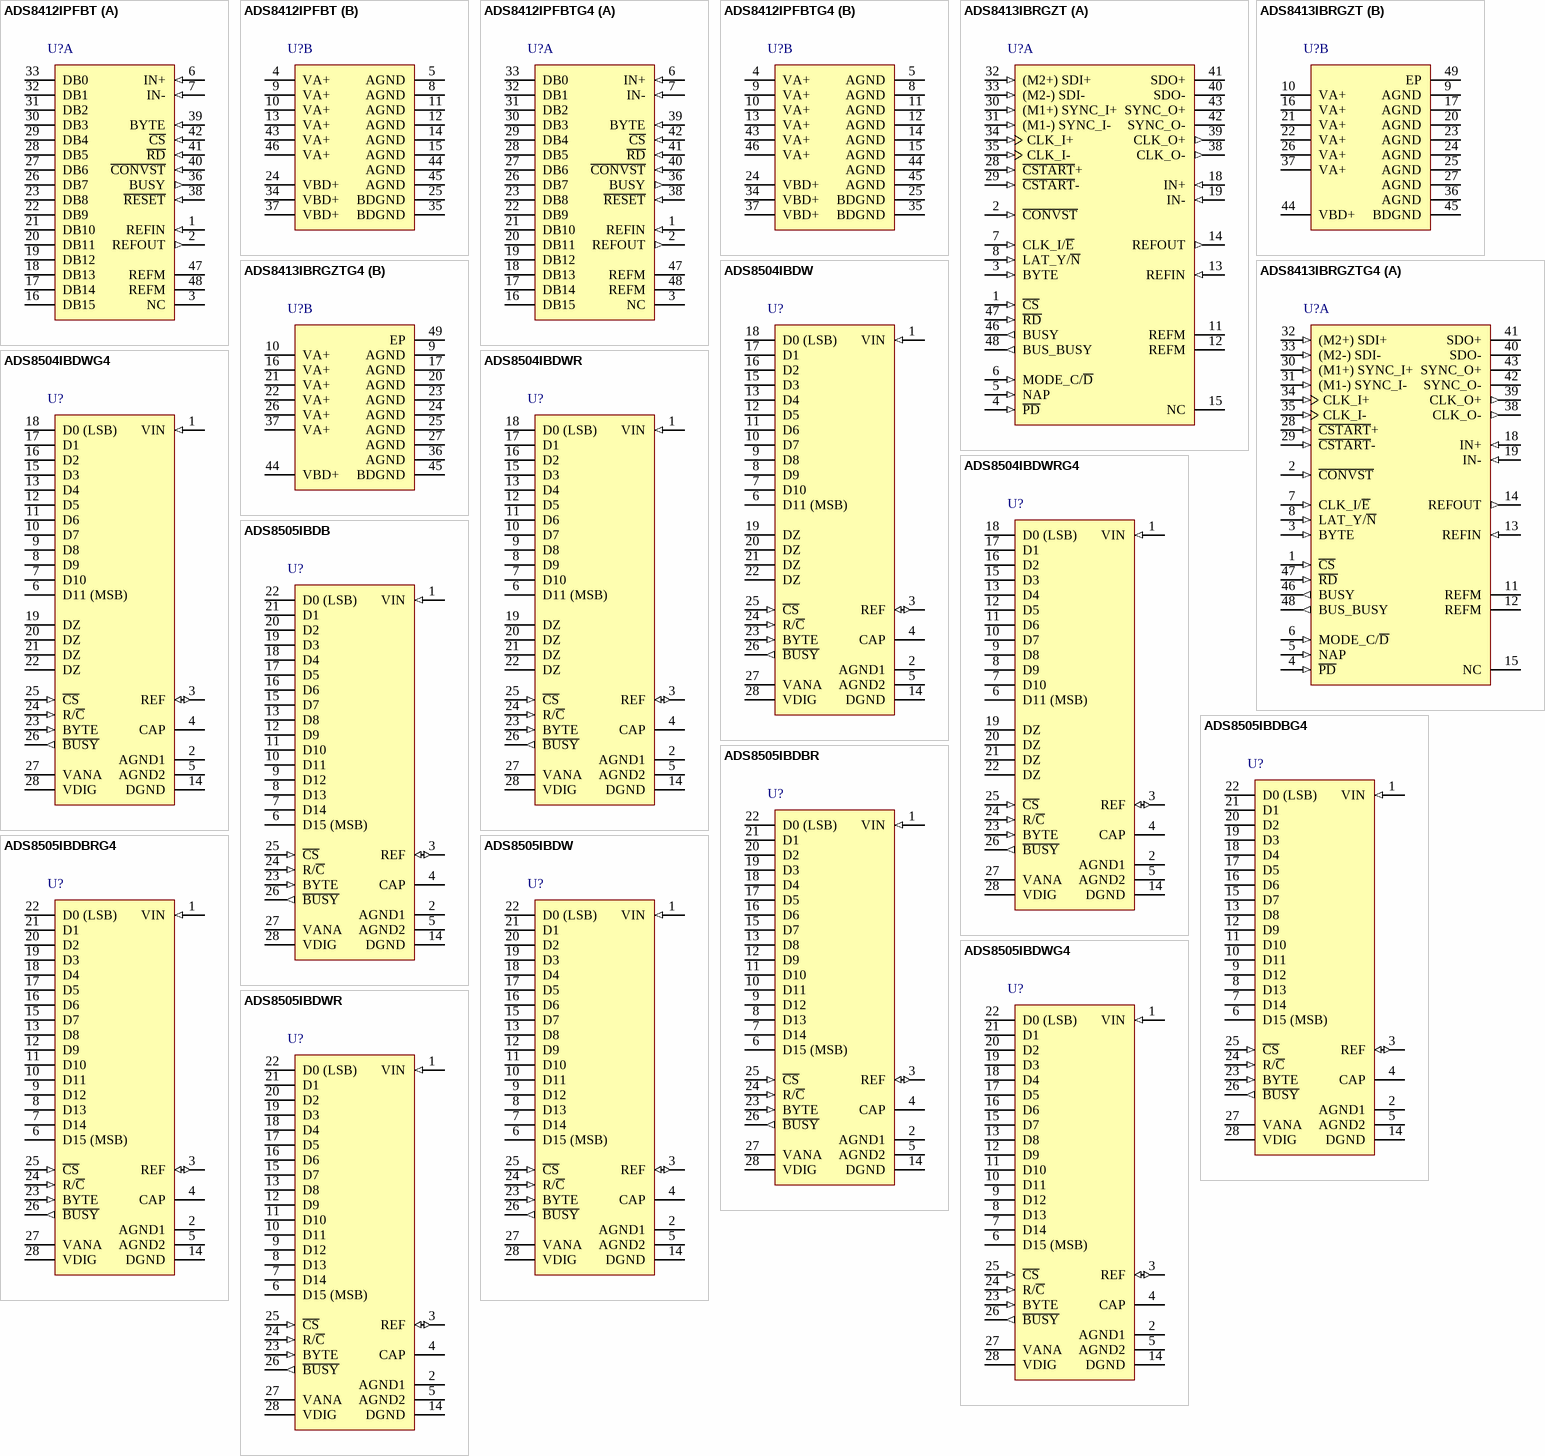
[diagram p82: symbols ADS8412IPFBT to ADS8505IBDWR]

## ADS8412IPFBT
designator U?
16-Bit 2 MSPS Parallel ADC with Reference, Pseudo Bipolar Fully Differential Input, -40 to 85 degC, 48-pin QFP (PFB48), Green (RoHS & no Sb/Br); Manufacturer: Texas Instruments; PartNumber: ADS8412IPFBT; # Input Channels: 1; Analog Voltage AV/DD(Max)(V): 5.25; Analog Voltage AV/DD(Min)(V): 4.75; Architecture: SAR; Digital Supply(Min)(V): 2.7; INL(Max)(+/-LSB): 6; Interface: Parallel CMOS; Resolution(Bits): 16; Sample Rate (max)(SPS): 2M; SFDR(dB): 95; SINAD(dB): 88; SNR(dB): 90; SubFamily: Precision ADC (<=10MSPS); DatasheetVersion: SLAS384A; PackageVersion: 4073176/B, 10/1996; PackageReference: PFB48; PackageDescription: 48-Pin Plastic Flat Pack, Body 7 x 7 mm, Pitch 0.5 mm; Supplier 1: Digi-Key; Supplier Part Number 1: ADS7816PC-ND; Supplier 2: Newark; Supplier Part Number 2: 74C7111; Supplier 3: Mouser; Supplier Part Number 3: 595-ADS7816PC; Digital Supply(Max)(V): 5.25; Eco-Plan: Green (RoHS & no Sb/Br); Mounting Technology: Surface Mount; Code_JEDEC: MS-026; ComponentLink1Description: Manufacturer URL; ComponentLink1URL: http://www.ti.com/; ComponentLink2Description: Datasheet; ComponentLink2URL: http://www.ti.com/general/docs/lit/getliterature.tsp?genericPartNumber=ADS8412&fileType=pdf; ComponentLink3Description: Package Specification; ComponentLink3URL: http://www.ti.com/lit/ml/mtqf019a/mtqf019a.pdf
footprint TI-PFB48_N (QFP, 48-Leads, Body 7x7mm, Pitch 0.5mm, IPC Medium Density)
footprint TI-PFB48_L (QFP, 48-Leads, Body 7x7mm, Pitch 0.5mm, IPC High Density)
footprint TI-PFB48_M (QFP, 48-Leads, Body 7x7mm, Pitch 0.5mm, IPC Low Density)
part A pins: 1 REFIN (in) "Reference input.", 2 REFOUT (out) "Reference output. Add 1 uF capacitor between the REFOUT pin and REFM pin when internal reference is used.", 3 NC "No connection", 6 IN+ (in) "Noninverting input channel", 7 IN- (in) "Inverting input channel", 16 DB15 (hiz), 17 DB14 (hiz), 18 DB13 (hiz), 19 DB12 (hiz), 20 DB11 (hiz), 21 DB10 (hiz), 22 DB9 (hiz), 23 DB8 (hiz), 26 DB7 (hiz), 27 DB6 (hiz), 28 DB5 (hiz), 29 DB4 (hiz), 30 DB3 (hiz), 31 DB2 (hiz), 32 DB1 (hiz), 33 DB0 (hiz), 36 BUSY (out) "Status output. High when a conversion is in progress.", 38 ~{RESET} (in) "Current conversion is aborted and output latches are cleared (set to zeros) when this pin is asserted low. R\E\S\E\T\ works independantly of C\S\.", 39 BYTE (in) "Byte select input. Used for 8-bit bus reading. 0: No fold back 1: Low byte D[7:0] of the 16 most significant bits is folded back to high byte of the 16 most significant pins DB[15:8].", 40 ~{CONVST} (in) "Convert start. The falling edge of this input ends the acquisition period and starts the hold period.", 41 ~{RD} (in) "Synchronization pulse for the parallel output. When C\S\ is low, this serves as the output enable and puts the previous conversion result on the bus.", 42 ~{CS} (in) "Chip select. The falling edge of this input starts the acquisition period.", 47 REFM (power) "Reference ground.", 48 REFM (power) "Reference ground."
part B pins: 4 VA+ (power) "Analog power supplies, 5-V dc", 5 AGND (power) "Analog ground", 8 AGND (power) "Analog ground", 9 VA+ (power) "Analog power supplies, 5-V dc", 10 VA+ (power) "Analog power supplies, 5-V dc", 11 AGND (power) "Analog ground", 12 AGND (power) "Analog ground", 13 VA+ (power) "Analog power supplies, 5-V dc", 14 AGND (power) "Analog ground", 15 AGND (power) "Analog ground", 24 VBD+ (power) "Digital power supply for bus", 25 BDGND (power) "Digital ground for bus interface digital supply", 34 VBD+ (power) "Digital power supply for bus", 35 BDGND (power) "Digital ground for bus interface digital supply", 37 VBD+ (power) "Digital power supply for bus", 43 VA+ (power) "Analog power supplies, 5-V dc", 44 AGND (power) "Analog ground", 45 AGND (power) "Analog ground", 46 VA+ (power) "Analog power supplies, 5-V dc"

## ADS8412IPFBTG4
designator U?
16-Bit 2 MSPS Parallel ADC with Reference, Pseudo Bipolar Fully Differential Input, -40 to 85 degC, 48-pin QFP (PFB48), Green (RoHS & no Sb/Br); Manufacturer: Texas Instruments; PartNumber: ADS8412IPFBTG4; # Input Channels: 1; Analog Voltage AV/DD(Max)(V): 5.25; Analog Voltage AV/DD(Min)(V): 4.75; Architecture: SAR; Digital Supply(Min)(V): 2.7; INL(Max)(+/-LSB): 6; Interface: Parallel CMOS; Resolution(Bits): 16; Sample Rate (max)(SPS): 2M; SFDR(dB): 95; SINAD(dB): 88; SNR(dB): 90; SubFamily: Precision ADC (<=10MSPS); DatasheetVersion: SLAS384A; PackageVersion: 4073176/B, 10/1996; PackageReference: PFB48; PackageDescription: 48-Pin Plastic Flat Pack, Body 7 x 7 mm, Pitch 0.5 mm; Supplier 1: Digi-Key; Supplier Part Number 1: ADS7816PCG4-ND; Supplier 2: Newark; Supplier Part Number 2: 59M9820; Supplier 3: Mouser; Supplier Part Number 3: 595-ADS7816PCG4; Digital Supply(Max)(V): 5.25; Eco-Plan: Green (RoHS & no Sb/Br); Mounting Technology: Surface Mount; Code_JEDEC: MS-026; ComponentLink1Description: Manufacturer URL; ComponentLink1URL: http://www.ti.com/; ComponentLink2Description: Datasheet; ComponentLink2URL: http://www.ti.com/general/docs/lit/getliterature.tsp?genericPartNumber=ADS8412&fileType=pdf; ComponentLink3Description: Package Specification; ComponentLink3URL: http://www.ti.com/lit/ml/mtqf019a/mtqf019a.pdf
footprint TI-PFB48_N (QFP, 48-Leads, Body 7x7mm, Pitch 0.5mm, IPC Medium Density)
footprint TI-PFB48_L (QFP, 48-Leads, Body 7x7mm, Pitch 0.5mm, IPC High Density)
footprint TI-PFB48_M (QFP, 48-Leads, Body 7x7mm, Pitch 0.5mm, IPC Low Density)
part A pins: 1 REFIN (in) "Reference input.", 2 REFOUT (out) "Reference output. Add 1 uF capacitor between the REFOUT pin and REFM pin when internal reference is used.", 3 NC "No connection", 6 IN+ (in) "Noninverting input channel", 7 IN- (in) "Inverting input channel", 16 DB15 (hiz), 17 DB14 (hiz), 18 DB13 (hiz), 19 DB12 (hiz), 20 DB11 (hiz), 21 DB10 (hiz), 22 DB9 (hiz), 23 DB8 (hiz), 26 DB7 (hiz), 27 DB6 (hiz), 28 DB5 (hiz), 29 DB4 (hiz), 30 DB3 (hiz), 31 DB2 (hiz), 32 DB1 (hiz), 33 DB0 (hiz), 36 BUSY (out) "Status output. High when a conversion is in progress.", 38 ~{RESET} (in) "Current conversion is aborted and output latches are cleared (set to zeros) when this pin is asserted low. R\E\S\E\T\ works independantly of C\S\.", 39 BYTE (in) "Byte select input. Used for 8-bit bus reading. 0: No fold back 1: Low byte D[7:0] of the 16 most significant bits is folded back to high byte of the 16 most significant pins DB[15:8].", 40 ~{CONVST} (in) "Convert start. The falling edge of this input ends the acquisition period and starts the hold period.", 41 ~{RD} (in) "Synchronization pulse for the parallel output. When C\S\ is low, this serves as the output enable and puts the previous conversion result on the bus.", 42 ~{CS} (in) "Chip select. The falling edge of this input starts the acquisition period.", 47 REFM (power) "Reference ground.", 48 REFM (power) "Reference ground."
part B pins: 4 VA+ (power) "Analog power supplies, 5-V dc", 5 AGND (power) "Analog ground", 8 AGND (power) "Analog ground", 9 VA+ (power) "Analog power supplies, 5-V dc", 10 VA+ (power) "Analog power supplies, 5-V dc", 11 AGND (power) "Analog ground", 12 AGND (power) "Analog ground", 13 VA+ (power) "Analog power supplies, 5-V dc", 14 AGND (power) "Analog ground", 15 AGND (power) "Analog ground", 24 VBD+ (power) "Digital power supply for bus", 25 BDGND (power) "Digital ground for bus interface digital supply", 34 VBD+ (power) "Digital power supply for bus", 35 BDGND (power) "Digital ground for bus interface digital supply", 37 VBD+ (power) "Digital power supply for bus", 43 VA+ (power) "Analog power supplies, 5-V dc", 44 AGND (power) "Analog ground", 45 AGND (power) "Analog ground", 46 VA+ (power) "Analog power supplies, 5-V dc"

## ADS8413IBRGZT
designator U?
16-Bit, Unipolar Differential Input, 2 MSPS Sampling Rate, 4.75 to 5.25 V ADC with LVDS Serial Interface, -40 to 85 degC, 48-pin QFN (RGZ48), Green (RoHS & no Sb/Br); Manufacturer: Texas Instruments; PartNumber: ADS8413IBRGZT; # Input Channels: 1; Analog Voltage AV/DD(Max)(V): 5.25; Analog Voltage AV/DD(Min)(V): 4.75; Architecture: SAR; Digital Supply(Min)(V): 2.7; INL(Max)(+/-LSB): 2; Interface: Parallel LVDS; Resolution(Bits): 16; Sample Rate (max)(SPS): 2M; SFDR(dB): 113; SINAD(dB): 92; SubFamily: Precision ADC (<=10MSPS); DatasheetVersion: SLAS490; PackageVersion: 4204101/F, 06/2011; PackageReference: RGZ48-5150X5150TP; PackageDescription: 48-Pin Plastic Flat Pack, Body 7 x 7 mm, Pitch 0.5 mm; Supplier 1: Digi-Key; Supplier Part Number 1: ADS7816PG4-ND; Supplier 2: Mouser; Supplier Part Number 2: 595-ADS7816PG4; Digital Supply(Max)(V): 5.25; Eco-Plan: Green (RoHS & no Sb/Br); SNR(dB): 92; Mounting Technology: Surface Mount; Code_JEDEC: MO-220; ComponentLink1Description: Manufacturer URL; ComponentLink1URL: http://www.ti.com/; ComponentLink2Description: Datasheet; ComponentLink2URL: http://www.ti.com/general/docs/lit/getliterature.tsp?genericPartNumber=ADS8413&fileType=pdf; ComponentLink3Description: Package Specification; ComponentLink3URL: http://www.ti.com/lit/ml/mpqf123e/mpqf123e.pdf
footprint TI-RGZ48-5150X5150TP_V (QFN, 48-Leads, Body 7x7mm, Pitch 0.5mm, Thermal Pad 5.15x5.15mm, TI Recommended)
part A pins: 1 ~{CS} (in) "Chip select, active low signal. All of the LVDS o/p except CLK_O are 3-state if this pin is high.", 2 ~{CONVST} (in) "CMOS equivalent of C\S\T\A\R\T\ input. So functionality is the same as the C\S\T\A\R\T\ input. Set C\O\N\V\S\T\ = 0 when the C\S\T\A\R\T\ input is used.", 3 BYTE (in) "Controls the data frame duration. The frame duration is 16 CLKs if BYTE = 0 or 8 CLKs if BYTE = 1.", 4 ~{PD} (in) "Active low input, acts as device power down.", 5 NAP (in) "Selects nap mode while high. Device enters nap state at conversion end and remains so until next acquisition phase begins.", 6 MODE_C/~{D} (in) "Selects cascade (MODE_C/D = 1) or daisy chain mode (MODE_C/D = 0).", 7 CLK_I/~{E} (in) "Selects the source of the I/O clock. CLK_I/E\= 1 selects internally generated clock with 200-MHz typ frequency. CLK_I/E\ = 0 selects CLK_I as the I/O clock.", 8 LAT_Y/~{N} (in) "Controls the data read with latency (LAT_Y/N\= 1) or without latency ((LAT_Y/N\ = 0). It is essential to set LAT_Y/N\= 0 for the first device in daisy chain or cascade.", 11 REFM (power) "Reference ground. Connect to analog ground plane.", 12 REFM (power) "Reference ground. Connect to analog ground plane.", 13 REFIN (in) "Reference (positive) input. Decouple with REFM pin using 0.1 uF bypass capacitor and 1 uF storage capacitor.", 14 REFOUT (out) "Internal reference output. Short to REFIN pin when internal reference is used. Do not connect to REFIN pin when external reference is used. Always decouple with AGND using 0.1 uF bypass capacitor.", 15 NC "No connection pins", 18 IN+ (in) "Noninverting analog input channel", 19 IN- (in) "Inverting analog input channel", 28 ~{CSTART}+ (in) "Device sample and convert control input. Device enters sample phase with rising edge of C\S\T\A\R\T\ and conversion phase starts with falling edge of C\S\T\A\R\T\ (provided other conditions are satisfied). Set C\S\T\A\R\T\ = (See Datasheet)", 29 ~{CSTART}- (in) "Device sample and convert control input. Device enters sample phase with rising edge of C\S\T\A\R\T\ and conversion phase starts with falling edge of C\S\T\A\R\T\ (provided other conditions are satisfied). Set C\S\T\A\R\T\ = (See Datasheet)", 30 (M1+) SYNC_I+ (in), 31 (M1-) SYNC_I- (in), 32 (M2+) SDI+ (in), 33 (M2-) SDI- (in), 34 CLK_I+ (in) "Serial external clock input. Set CLK_I/E\(pin 7) = 0 to select external clock source.", 35 CLK_I- (in) "Serial external clock input. Set CLK_I/E\(pin 7) = 0 to select external clock source.", 38 CLK_O- (out) "Serial clock out. Data is latched out on the rising edge of CLK_O and can be captured on the next falling edge.", 39 CLK_O+ (out) "Serial clock out. Data is latched out on the rising edge of CLK_O and can be captured on the next falling edge.", 40 SDO- (hiz) "Serial data out. Data is latched out on the rising edge of CLK_O with MSB first format.", 41 SDO+ (hiz) "Serial data out. Data is latched out on the rising edge of CLK_O with MSB first format.", 42 SYNC_O- (hiz) "Synchronizes the data frame.", 43 SYNC_O+ (hiz) "Synchronizes the data frame.", 46 BUSY (out) "Active high signal, indicates a conversion is in progress.", 47 ~{RD} (in) "Data read request to the device, also acts as a hand shake signal for daisy chain and cascade operation.", 48 BUS_BUSY (out) "Status output. Indicates that the bus is being used by the device. Connect to RD of the next device for daisy chain or cascade operation."
part B pins: 9 AGND (power) "Analog ground pins. Short to the analog ground plane below the device.", 10 VA+ (power) "Analog power supply and LVDS input buffer power supply.", 16 VA+ (power) "Analog power supply and LVDS input buffer power supply.", 17 AGND (power) "Analog ground pins. Short to the analog ground plane below the device.", 20 AGND (power) "Analog ground pins. Short to the analog ground plane below the device.", 21 VA+ (power) "Analog power supply and LVDS input buffer power supply.", 22 VA+ (power) "Analog power supply and LVDS input buffer power supply.", 23 AGND (power) "Analog ground pins. Short to the analog ground plane below the device.", 24 AGND (power) "Analog ground pins. Short to the analog ground plane below the device.", 25 AGND (power) "Analog ground pins. Short to the analog ground plane below the device.", 26 VA+ (power) "Analog power supply and LVDS input buffer power supply.", 27 AGND (power) "Analog ground pins. Short to the analog ground plane below the device.", 36 AGND (power) "Analog ground pins. Short to the analog ground plane below the device.", 37 VA+ (power) "Analog power supply and LVDS input buffer power supply.", 44 VBD+ (power) "Digital power supply for all CMOS digital inputs and CMOS, LVDS outputs.", 45 BDGND (power) "Digital ground for all digital inputs and outputs. Short to the analog ground plane below the device.", 49 EP